# Altium footprint library Components - 24.04.20 - 04.20.PcbLib: 3 footprints
Each footprint in its own frame and in the unit in brackets; x right, y up, seen from the top. Pads: shape width x height; smd on the part's side, far side on the other; paste and mask are expansions set on the pad; w line width, h text height; cw(c..) or ccw(c..) is an arc to the next point about the centre after c.
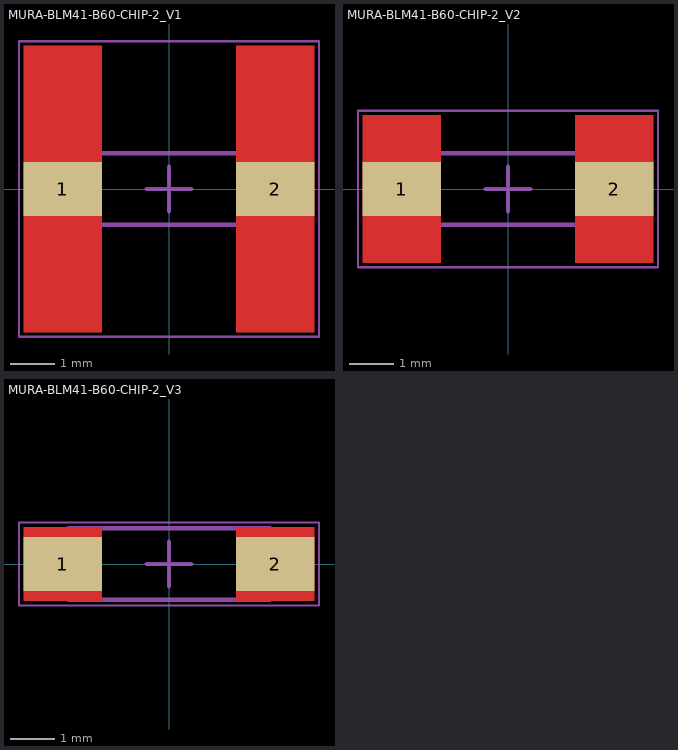
[diagram p0: the footprints below, top view; thin cyan lines are the x and y axes]

## MURA-BLM41-B60-CHIP-2_V1 [mm] "Chip Ferrite Bead, 2-Leads, Body 4.5x1.6mm, Height 1.8mm, 18um Land Pad Thickness, 6A Rated Current"
height 1.8
pads (2):
  rect 1.75x1.2 smd mask+0: 1(-2.375,0) 2(2.375,0)
Top Layer:
  region: 3.25,3.2 1.5,3.2 1.5,-3.2 3.25,-3.2
  rectangle: -3.25,-3.2 -1.5,3.2
Mechanical 6:
  text "Land Pattern Adapted for 18um Land Pad Thickness" at -2.275,3.5 h0.1
Mechanical 13:
  lines w0.1: -2.25,-0.8 -2.25,0.8 2.25,0.8 2.25,-0.8 -2.25,-0.8
Mechanical 15:
  lines w0.05: -3.35,-3.3 -3.35,3.3 3.35,3.3 3.35,-3.3 -3.35,-3.3
  lines w0.1: -0.5,0 0.5,0 ; 0,-0.5 0,0.5
3D body: height 1.8, standoff 0, extent -2.25,-0.8 2.25,0.8

## MURA-BLM41-B60-CHIP-2_V2 [mm] "Chip Ferrite Bead, 2-Leads, Body 4.5x1.6mm, Height 1.8mm, 35um Land Pad Thickness, 6A Rated Current"
height 1.8
pads (2):
  rect 1.75x1.2 smd mask+0: 1(-2.375,0) 2(2.375,0)
Top Layer:
  rectangle: -3.25,-1.65 -1.5,1.65
  region: 3.25,1.65 1.5,1.65 1.5,-1.65 3.25,-1.65
Mechanical 6:
  text "Land Pattern Adapted for 35um Land Pad Thickness" at -2.3,1.95 h0.1
Mechanical 13:
  lines w0.1: -2.25,-0.8 2.25,-0.8 2.25,0.8 -2.25,0.8 -2.25,-0.8
Mechanical 15:
  lines w0.05: -3.35,-1.75 3.35,-1.75 3.35,1.75 -3.35,1.75 -3.35,-1.75
  lines w0.1: -0.5,0 0.5,0 ; 0,-0.5 0,0.5
3D body: height 1.8, standoff 0, extent -2.25,-0.8 2.25,0.8

## MURA-BLM41-B60-CHIP-2_V3 [mm] "Chip Ferrite Bead, 2-Leads, Body 4.5x1.6mm, Height 1.8mm, 70um Land Pad Thickness, 6A Rated Current"
height 1.8
pads (2):
  rect 1.75x1.2 smd mask+0: 1(-2.375,0) 2(2.375,0)
Top Layer:
  rectangle: -3.25,-0.825 -1.5,0.825
  region: 3.25,0.825 1.5,0.825 1.5,-0.825 3.25,-0.825
Mechanical 6:
  text "Land Pattern Adapted for 70um Land Pad Thickness" at -2.3,1.1 h0.1
Mechanical 13:
  lines w0.1: -2.25,-0.8 2.25,-0.8 2.25,0.8 -2.25,0.8 -2.25,-0.8
Mechanical 15:
  lines w0.05: -3.35,-0.925 3.35,-0.925 3.35,0.925 -3.35,0.925 -3.35,-0.925
  lines w0.1: -0.5,0 0.5,0 ; 0,-0.5 0,0.5
3D body: height 1.8, standoff 0, extent -2.25,-0.8 2.25,0.8